# Altium schematic symbol library DIODE,Zener,1.8V,500mW,SMD.Schlib: 1 symbol
Pins are listed as number, name and electrical type; pins without a type are passive.

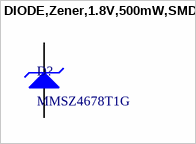
[diagram p0: symbol DIODE,Zener,1.8V,500mW,SMD]

## DIODE,Zener,1.8V,500mW,SMD
designator D?, comment MMSZ4678T1G
Zener Diode 1.8V 500mW ±5% Surface Mount SOD-123
pins: 1 K, 2 A